# EAGLE library part AGB-AMP (library arcadetv)
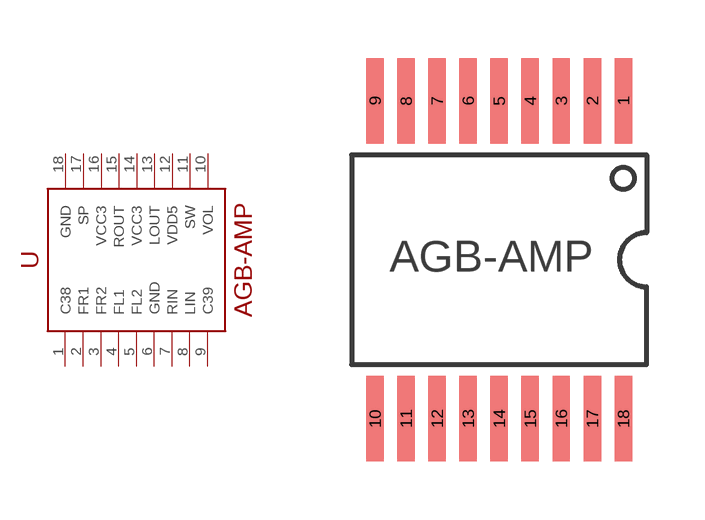
[diagram p21: symbol with the pads of AGB-AMP; footprint AGB-AMP]

Designator prefix -

## AGB-AMP  [AGB-AMP]
1  C38
2  FR1
3  FR2
4  FL1
5  FL2
6  GND
7  RIN
8  LIN
9  C39
10  VOL
11  SW
12  VDD5
13  LOUT
14  VCC3
15  ROUT
16  VCC3
17  SP
18  GND

## Footprint AGB-AMP (pad centres in mm)
smd 0.45 x 2.2: 1 3.2,0; 2 2.4,0; 3 1.6,0; 4 0.8,0; 5 0,0; 6 -0.8,0; 7 -1.6,0; 8 -2.4,0; 9 -3.2,0; 10 -3.2,-8.2; 11 -2.4,-8.2; 12 -1.6,-8.2; 13 -0.8,-8.2; 14 0,-8.2; 15 0.8,-8.2; 16 1.6,-8.2; 17 2.4,-8.2; 18 3.2,-8.2